# Altium schematic symbol library LONGOR_LONG.Schlib: 1 symbol
Pins are listed as number, name and electrical type; pins without a type are passive.

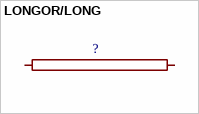
[diagram p0: symbol LONGOR/LONG]

## LONGOR/LONG
designator ?
footprint 0R/10
pins: 1, 2